# Altium schematic symbol library LA55-P.SchLib: 2 symbols
Pins are listed as number, name and electrical type; pins without a type are passive.

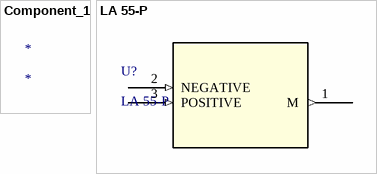
[diagram p0: symbols Component_1 to LA 55-P]

## Component_1
designator *

## LA 55-P
designator U?
No Description Available; Mfr_Name: LEM; Copyright: Copyright (C) 2022 Ultra Librarian. All rights reserved.; Manufacturer_Part_Number: LA 55-P; Digi-Key_Part_Number_1: 398-1010-ND; Digi-Key_Part_Number_2: 398-1010-NDL; RefDes: RefDes; Type: DEV
footprint LA 55-P_LEM
pins: 1 M (out), 2 NEGATIVE (in), 3 POSITIVE (in)